# Altium schematic symbol library comp-d_0.Schlib: 1 symbol
Pins are listed as number, name and electrical type; pins without a type are passive.

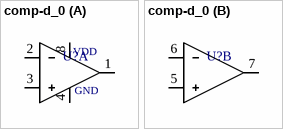
[diagram p0: symbol comp-d_0]

## comp-d_0
designator U?  (value not drawn)
Dual Comparator, Generic
part A pins: 1, 2, 3, 4, 8
part B pins: 5, 6, 7
part A text: VDD; GND